# EAGLE library part 653006117322 (library Wurth_Connectors_WR-WTB)
WR-WTB 1.25 mm Male Horizontal Shrouded Header KIND PROPERTIES: Pitch:1.25 mm Gender:Male MATERIAL PROPERTIES: Insulator Material :PA46 Insulator Flammability Rating:UL94 V-0 Color:Ivory Contact Material:Copper Alloy Contact Plating:Tin Contact Type:Stamped GENERAL INFORMATION Operating Temperature:-40 up to +85 °C Compliance: RoHS Working Voltage:125 V (AC) Withstanding Voltage:250V (AC) Contact Resistance:20 mΩ RISO:100 MΩ PACKAGING PROPERTIES UL Approval:E323964 PACKAGING PROPERTIES Packaging:Tube <https://katalog.we-online.com/media/images/v2/o33371v209%20Family_WR-WTB_6530xx117322,.jpg> Details see: https://katalog.we-online.com/en/em/WTB_1_25_MALE_HORIZONTAL_SHROUDED_HEADER_6530XX117322 Updated by Yingchun,Shan 2019-11-11 2019 (C) Würth Elektronik
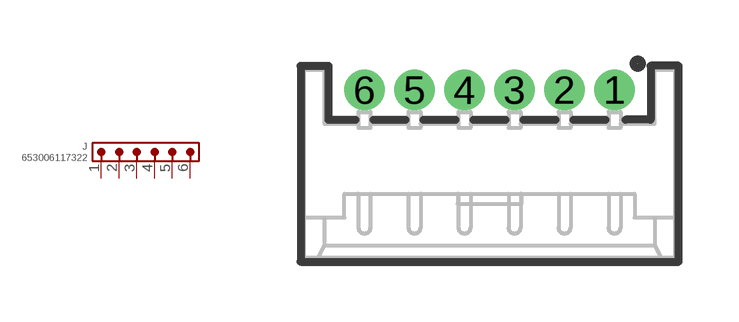
[diagram p37: symbol with the pads of 653006117322; footprint 653006117322]

Designator prefix J

## 653006117322 (CONTACT-RESISTANCE: 20mOhm; DATASHEET-URL: https://www.we-online.com/redexpert/spec/653006117322?ae; GENDER: Male; IR: 1A; L: 9.25mm; MOUNT: THT; PACKAGING: Tube; PART-NUMBER: 653006117322; PCB-CABLE-PANEL: PCB; PINS: 6; PITCH: 1.25mm; TYPE: Horizontal; VALUE: 653006117322; WORKING-VOLTAGE: 125V(AC))  [653006117322]
1  1  pas
2  2  pas
3  3  pas
4  4  pas
5  5  pas
6  6  pas

## Footprint 653006117322 (pad centres in mm)
WR-WTB 1.25 mm Male Horizontal Shrouded Header,6 Pins
drill 0.5 pad 0.8: 1 3.125,1.85; 2 1.875,1.85; 3 0.625,1.85; 4 -0.625,1.85; 5 -1.875,1.85; 6 -3.125,1.85